# EAGLE library part CPL-SEN-PRS-MPXV5100DP (library TinWhiskers)
Pressure Sensor: MPXV5100DP, Temp-Calibrated, Silicon, 5V; Package: SMD-6; Datasheet: http://www.freescale.com/files/sensors/doc/data_sheet/MPX5100.pdf
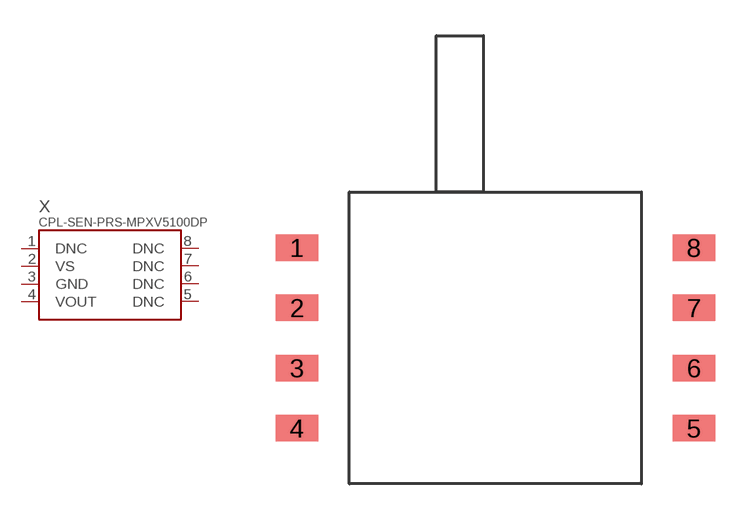
[diagram p38: symbol with the pads of 8-SMD; footprint 8-SMD]

Designator prefix X

## CPL-SEN-PRS-MPXV5100DP  [8-SMD]
1  DNC
2  VS
3  GND
4  VOUT
5  DNC
6  DNC
7  DNC
8  DNC

## Footprint 8-SMD (pad centres in mm)
8-SMD; Source: Freescale Semiconductor (http://www.freescale.com/files/sensors/doc/data_sheet/MPX5050.pdf)
smd 1.8 x 1.115: 1 -8.367,3.81; 2 -8.367,1.27; 3 -8.367,-1.27; 4 -8.367,-3.81; 5 8.367,-3.81; 6 8.367,-1.27; 7 8.367,1.27; 8 8.367,3.81